# Altium schematic symbol library LedMatrix.SchLib: 12 symbols
Pins are listed as number, name and electrical type; pins without a type are passive.

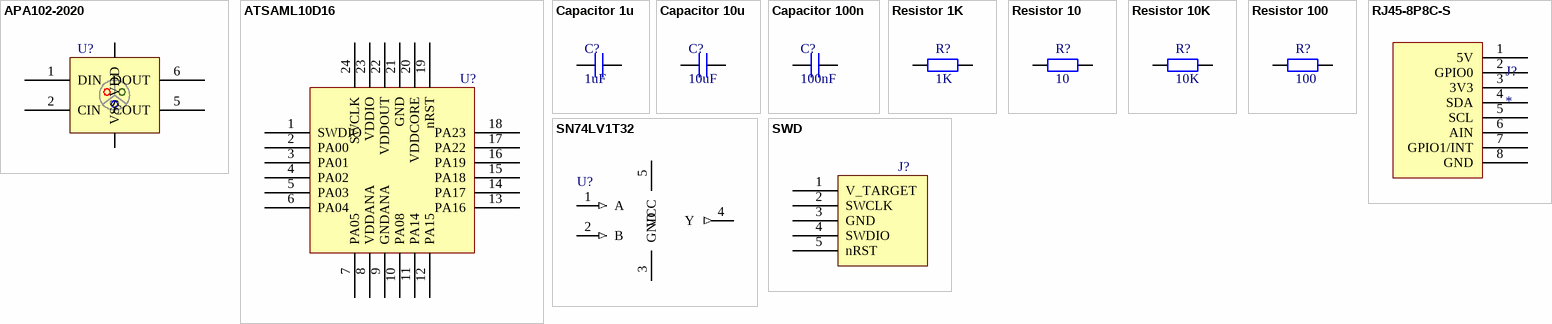
[diagram p0: symbols APA102-2020 to SWD]

## APA102-2020
designator U?  (value not drawn)
RGB LED
footprint APA102
pins: 1 DIN, 2 CIN, 3 VSS, 4 VDD, 5 COUT, 6 DOUT

## ATSAML10D16
designator U?  (value not drawn)
48MHz 32bit ARM MCU; Flash size: 16kB; RAM size: 4kB
footprint QFN50P400X400X90_HS-25N (QFN, 24-Leads, Body 4,00x4,00mm, Pitch 0,50mm, Thermal Pad 2,60x2,60mm, IPC Medium Density)
pins: 1 SWDIO, 2 PA00, 3 PA01, 4 PA02, 5 PA03, 6 PA04, 7 PA05, 8 VDDANA, 9 GNDANA, 10 PA08, 11 PA14, 12 PA15, 13 PA16, 14 PA17, 15 PA18, 16 PA19, 17 PA22, 18 PA23, 19 nRST, 20 VDDCORE, 21 GND, 22 VDDOUT, 23 VDDIO, 24 SWCLK

## Capacitor 1u
designator C?, comment 1uF
Value: 1uF
footprint CAP1608X06M (Chip Capacitor 2-Leads, Body 1,60x0,80mm, IPC Low Density)
pins: 1, 2

## Capacitor 10u
designator C?, comment 10uF
Value: 10uF
footprint CAP1608X06M (Chip Capacitor 2-Leads, Body 1,60x0,80mm, IPC Low Density)
pins: 1, 2

## Capacitor 100n
designator C?, comment 100nF
Value: 100nF
footprint CAP1608X06M (Chip Capacitor 2-Leads, Body 1,60x0,80mm, IPC Low Density)
pins: 1, 2

## Resistor 1K
designator R?, comment 1K
Value: 1K
footprint RESC1608X06M (Chip Resistor, 2-Leads, Body 1,60x0,80mm, IPC Low Density)
pins: 1, 2

## Resistor 10
designator R?, comment 10
Value: 10
footprint RESC1608X06M (Chip Resistor, 2-Leads, Body 1,60x0,80mm, IPC Low Density)
pins: 1, 2

## Resistor 10K
designator R?, comment 10K
Value: 10K
footprint RESC1608X06M (Chip Resistor, 2-Leads, Body 1,60x0,80mm, IPC Low Density)
pins: 1, 2

## Resistor 100
designator R?, comment 100
Value: 100
footprint RESC1608X06M (Chip Resistor, 2-Leads, Body 1,60x0,80mm, IPC Low Density)
pins: 1, 2

## RJ45-8P8C-S
designator J?
Datasheet: /Robotics%20Platform/Datasheets/Connectors/5721-8P8C-全塑有耳.pdf
footprint RJ45-8P8C
pins: 1 5V, 2 GPIO0, 3 3V3, 4 SDA, 5 SCL, 6 AIN, 7 GPIO1/INT, 8 GND

## SN74LV1T32
designator U?, comment OR gate  (value not drawn)
Manufacturer_Name: Texas Instruments; Manufacturer_Part_Number: SN74LV1T32DCKR; Datasheet Link: http://www.ti.com/lit/ds/symlink/sn74lv1t32.pdf; Mouser2 Price/Stock: https://hu.mouser.com/Search/Refine?Keyword=SN74LV1T32DCKR; Mouser code: 595-SN74LV1T32DCKR
footprint SOT95P270X145-5N
pins: 1 A (in), 2 B (in), 3 GND (power), 4 Y (out), 5 VCC (power)

## SWD
designator J?  (value not drawn)
footprint Sullins_GRPB051VWVN-RC
pins: 1 V_TARGET, 2 SWCLK, 3 GND, 4 SWDIO, 5 nRST